# Altium footprint library Filter.PcbLib: 5 footprints
Each footprint in its own frame and in the unit in brackets; x right, y up, seen from the top. Pads: shape width x height; smd on the part's side, far side on the other; paste and mask are expansions set on the pad; w line width, h text height; cw(c..) or ccw(c..) is an arc to the next point about the centre after c.
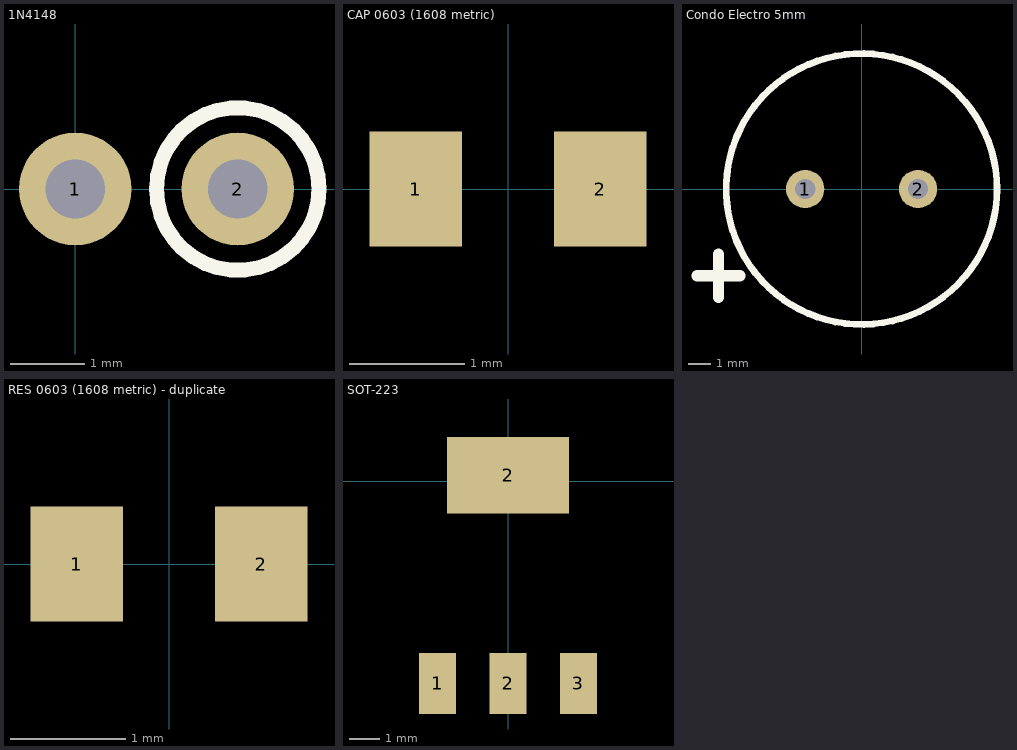
[diagram p0: the footprints below, top view; thin cyan lines are the x and y axes]

## 1N4148 [mil] "Diode Thru Hole"
pads (2):
  round 60 hole 31.5: 1(0,0) 2(86.61,0)
Top Overlay:
  circle w7.87: c86.61,0 r43.31
3D body: height 78.74, standoff 39.37, extent 49.22,-37.39 124.02,37.4
3D body: height 208.66, standoff 39.37, extent 51.19,-35.41 122.05,35.42

## CAP 0603 (1608 metric) [mm] "CAP"
height 1
pads (2):
  rect 0.8x1 smd: 1(-0.8,0) 2(0.8,0)
3D body: height 0.8, standoff 0, extent -0.8,-0.4 0.8,0.4

## Condo Electro 5mm [mm] "Electrolitique 5mm spacing 10 x 12mm"
height 13
pads (2):
  round 1.7 hole 0.9: 1(-2.5,0) 2(2.5,0)
Top Overlay:
  circle w0.3: c0,0 r6
  lines w0.5: -7.293,-3.849 -5.388,-3.849 ; -6.34,-4.802 -6.34,-2.897
3D body: height 12.3, standoff 0.3, extent -5,-5 5,5

## RES 0603 (1608 metric) - duplicate [mm] "RES"
height 1
pads (2):
  rect 0.8x1 smd: 1(-0.8,0) 2(0.8,0)
3D body: height 0.8, standoff 0, extent -0.8,-0.4 0.8,0.4

## SOT-223 [mm] "LDO Regul"
pads (4):
  rect 1.2x2 smd: 1(-2.3,-6.6) 2(0,-6.6) 3(2.3,-6.6)
  rect 4x2.5 smd: 2(0,0.2)
3D body: height 1.65, standoff 0, extent -3.2,-5 3.2,-1.5